# Altium footprint library APDS-9960.PcbLib: 1 footprints
Each footprint in its own frame and in the unit in brackets; x right, y up, seen from the top. Pads: shape width x height; smd on the part's side, far side on the other; paste and mask are expansions set on the pad; w line width, h text height; cw(c..) or ccw(c..) is an arc to the next point about the centre after c.
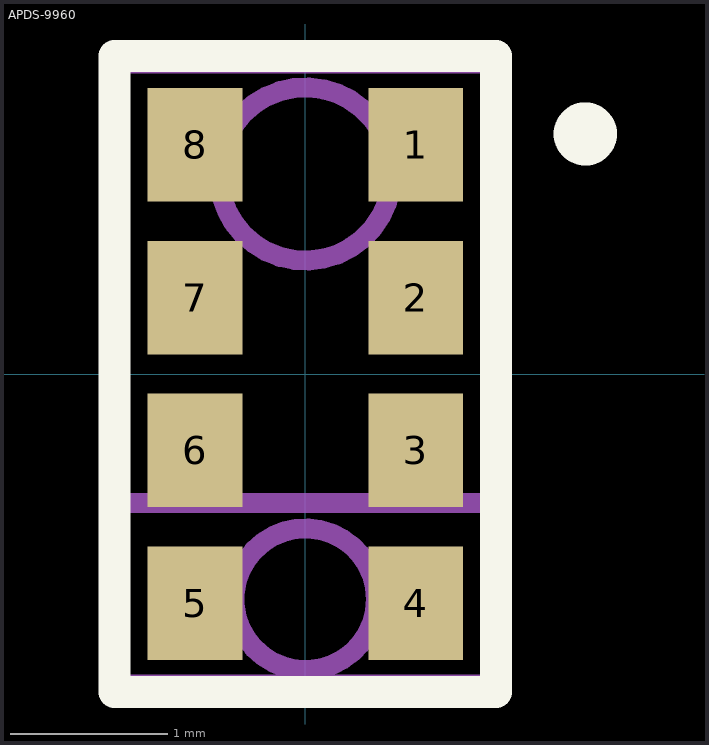
[diagram p0: the footprint, top view; thin cyan lines are the x and y axes]

## APDS-9960 [mm]
pads (8):
  rect 0.6x0.72 smd: 1(0.7,1.455) 2(0.7,0.485) 3(0.7,-0.485) 4(0.7,-1.455) 5(-0.7,-1.455) 6(-0.7,-0.485) 7(-0.7,0.485) 8(-0.7,1.455)
Top Overlay:
  circle w0.3: c1.778,1.524 r0.051
  lines w0.203: -1.21,-2.02 -1.21,2.02 1.21,2.02 1.21,-2.02 -1.21,-2.02
Mechanical 13:
  circle w0.127: c0,-1.43 r0.45
  circle w0.127: c0,1.27 r0.55
  lines w0.127: -1.18,-0.82 1.18,-0.82 ; -1.18,-0.82 -1.18,-1.97 1.18,-1.97 1.18,-0.82 ; -1.18,-0.82 -1.18,1.97 1.18,1.97 1.18,-0.82
3D body "step_temp.STEP": height 1.55, standoff 0, extent -1.18,-1.97 1.18,1.97